# Altium footprint library PCB - CAPACITOR - FILM - CAP FILM 0805.PCBLIB: 1 footprints
Each footprint in its own frame and in the unit in brackets; x right, y up, seen from the top. Pads: shape width x height; smd on the part's side, far side on the other; paste and mask are expansions set on the pad; w line width, h text height; cw(c..) or ccw(c..) is an arc to the next point about the centre after c.
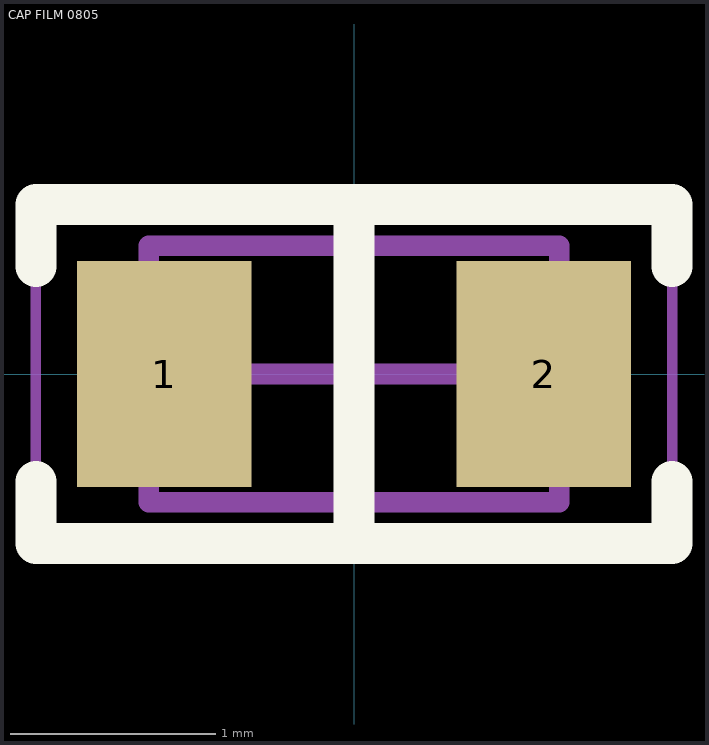
[diagram p0: the footprint, top view; thin cyan lines are the x and y axes]

## CAP FILM 0805 [mm] "J2, Film Capacitor PPS , 2-Leads, Body 2.00x1.25mm, IPC Medium Density"
height 1
pads (2):
  rect 0.85x1.1 smd: 1(-0.925,0) 2(0.925,0)
Top Overlay:
  lines w0.2: -1.55,-0.525 -1.55,-0.825 1.55,-0.825 1.55,-0.525 ; -1.55,0.525 -1.55,0.825 1.55,0.825 1.55,0.525 ; 0,-0.825 0,0.8
Mechanical 13:
  lines w0.1: -1,-0.625 -1,0.625 1,0.625 1,-0.625 -1,-0.625
Mechanical 15:
  lines w0.05: -1.55,-0.825 1.55,-0.825 1.55,0.825 -1.55,0.825 -1.55,-0.825
  lines w0.1: -0.5,0 0.5,0 ; 0,-0.5 0,0.5
3D body "CAP FILM - 0805.step": height 1.2, standoff 0, extent -1,-0.616 1,0.616